# EAGLE library part IMCV11 (library con-phoenix-381_l)
Invertierter Mini-Combicon 3.81mm vertikal 11-polig IMCV 1,5/11-G-3,81 (ohne Gegenstecker)
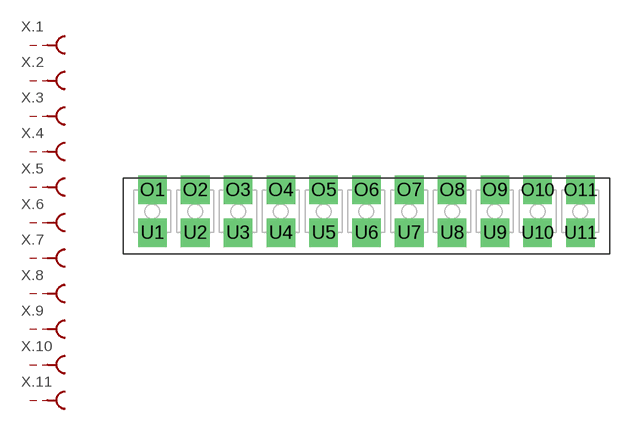
[diagram p27: symbol with the pads of IMCV11; footprint IMCV11]

Designator prefix X; gates .6=MCBU .5=MCBU .4=MCBU .3=MCBU .2=MCBU .1=MCBU .7=MCBU .8=MCBU .9=MCBU .10=MCBU .11=MCBU

## IMCV11  [IMCV11]
O1  .1:S  pas
O2  .2:S  pas
O3  .3:S  pas
O4  .4:S  pas
O5  .5:S  pas
O6  .6:S  pas
O7  .7:S  pas
O8  .8:S  pas
O9  .9:S  pas
O10  .10:S  pas
O11  .11:S  pas
U1  .1:SK  pas
U2  .2:SK  pas
U3  .3:SK  pas
U4  .4:SK  pas
U5  .5:SK  pas
U6  .6:SK  pas
U7  .7:SK  pas
U8  .8:SK  pas
U9  .9:SK  pas
U10  .10:SK  pas
U11  .11:SK  pas

## Footprint IMCV11 (pad centres in mm)
Mini-Combicon 3.81mm vertical 11-polig invertiert (ohne Gegenstecker)
drill 1.27 pad 2.54 square: O1 -19.05,1.905; O2 -15.24,1.905; O3 -11.43,1.905; O4 -7.62,1.905; O5 -3.81,1.905; O6 0,1.905; O7 3.81,1.905; O8 7.62,1.905; O9 11.43,1.905; O10 15.24,1.905; O11 19.05,1.905; U1 -19.05,-1.905; U2 -15.24,-1.905; U3 -11.43,-1.905; U4 -7.62,-1.905; U5 -3.81,-1.905; U6 0,-1.905; U7 3.81,-1.905; U8 7.62,-1.905; U9 11.43,-1.905; U10 15.24,-1.905; U11 19.05,-1.905